# Altium footprint library Vishay.PcbLib: 2 footprints
Each footprint in its own frame and in the unit in brackets; x right, y up, seen from the top. Pads: shape width x height; smd on the part's side, far side on the other; paste and mask are expansions set on the pad; w line width, h text height; cw(c..) or ccw(c..) is an arc to the next point about the centre after c.
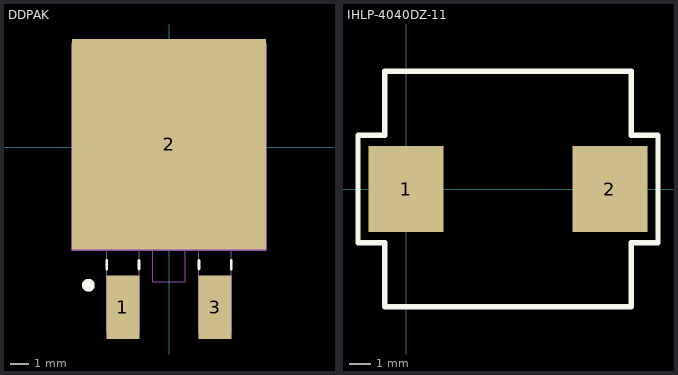
[diagram p0: the footprints below, top view; thin cyan lines are the x and y axes]

## DDPAK [mm]
height 2.54
pads (3):
  rect 1.831x3.501 smd: 1(-2.54,-8.835) 3(2.54,-8.835)
  rect 10.67x11.605 smd: 2(0,0.152)
Top Overlay:
  circle w0.5: c-4.445,-7.62 r0.1
  lines w0.152: -3.43,-6.729 -3.43,-6.26 ; -1.65,-6.729 -1.65,-6.26 ; 1.65,-6.729 1.65,-6.26 ; 3.43,-6.729 3.43,-6.26
Mechanical 1:
  lines w0.152: -5.335,-5.65 5.335,-5.65 5.335,5.65 -5.335,5.65 -5.335,-5.65
Mechanical 13:
  lines w0: -0.89,-5.65 -0.89,-7.43 0.89,-7.43 0.89,-5.65 ; -5.335,-5.65 5.335,-5.65 5.335,5.65 -5.335,5.65 -5.335,-5.65 ; -3.43,-10.23 -3.43,-5.65 -1.65,-5.65 -1.65,-10.23 -3.43,-10.23 ; 1.65,-10.23 1.65,-5.65 3.43,-5.65 3.43,-10.23 1.65,-10.23

## IHLP-4040DZ-11 [mm] "Vishay Low Profile, High Current IHLP Inductor"
height 4
pads (2):
  rect 3.5x4 smd: 1(0,0) 2(9.5,0)
Top Overlay:
  lines w0.254: -2.25,-2.5 -1,-2.5 -1,-5.5 10.5,-5.5 10.5,-2.5 11.75,-2.5 11.75,2.5 10.5,2.5 10.5,5.5 -1,5.5 -1,2.5 -2.25,2.5 -2.25,-2.5
3D body: height 4, standoff 0.1, extent -0.65,-5.15 10.15,5.15